# Altium footprint library SM_DIODE_TVS_SLP6.PcbLib: 1 footprints
Each footprint in its own frame and in the unit in brackets; x right, y up, seen from the top. Pads: shape width x height; smd on the part's side, far side on the other; paste and mask are expansions set on the pad; w line width, h text height; cw(c..) or ccw(c..) is an arc to the next point about the centre after c.
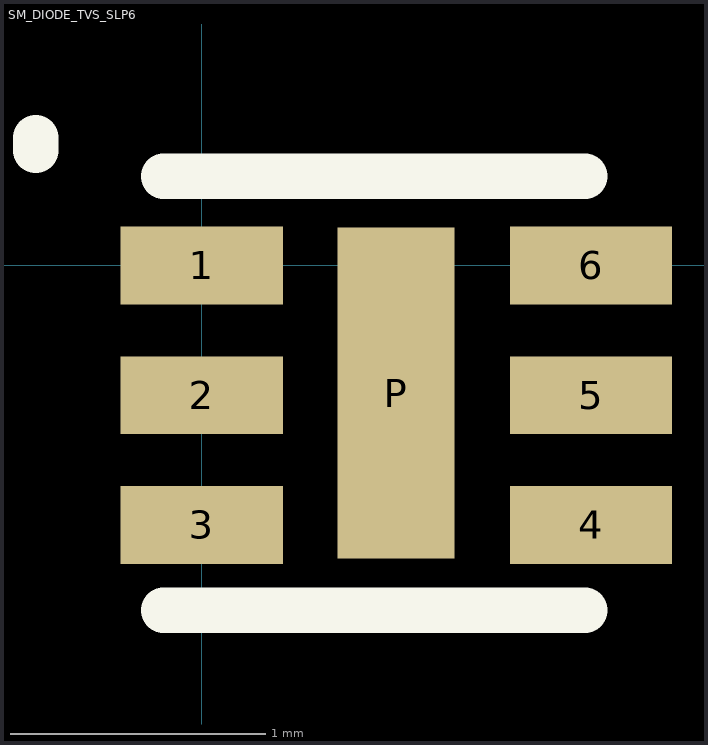
[diagram p0: the footprint, top view; thin cyan lines are the x and y axes]

## SM_DIODE_TVS_SLP6 [mil]
height 19.68
pads (7):
  rect 25x12 smd: 1(0,0) 2(0,-20) 3(0,-40) 4(60,-40) 5(60,-20) 6(60,0)
  rect 18x51 smd mask+0: P(29.92,-19.68)
Top Overlay:
  lines w7: -25.59,17.72 -25.59,19.68 ; -5.91,-53.15 59.06,-53.15 ; -5.91,13.78 59.06,13.78
3D body: height 19.68, standoff 0, extent -7.87,-51.18 66.93,11.81